# Altium footprint library KUOZHAN.PcbLib: 64 footprints (part 2 of 4)
Each footprint in its own frame and in the unit in brackets; x right, y up, seen from the top. Pads: shape width x height; smd on the part's side, far side on the other; paste and mask are expansions set on the pad; w line width, h text height; cw(c..) or ccw(c..) is an arc to the next point about the centre after c.
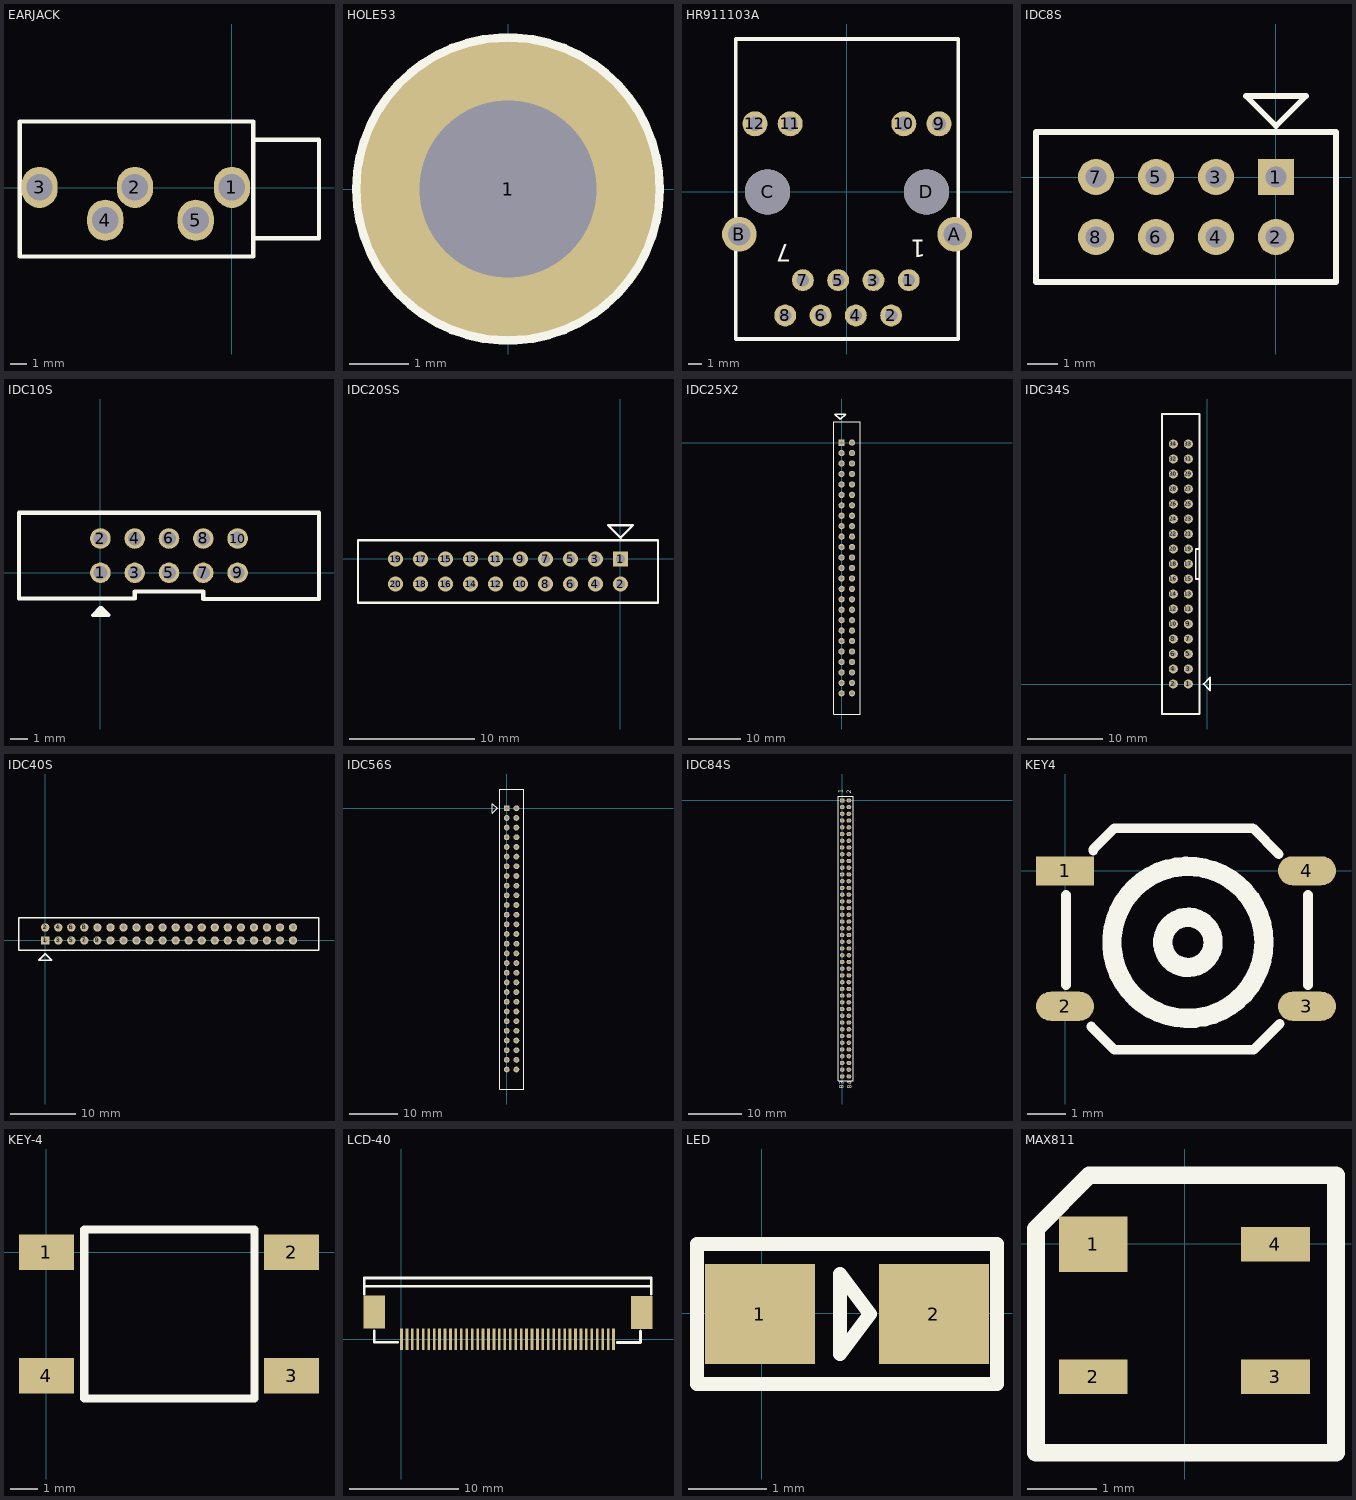
[diagram p1: the footprints below, top view; thin cyan lines are the x and y axes]

## EARJACK [mm]
pads (5):
  oval 2.2x2.5 hole 1.6: 1(-0.006,0.012) 2(-5.906,0.012) 3(-11.706,0.012) 4(-7.706,-1.988) 5(-2.206,-1.988)
TopOverlay:
  lines w0.254: 1.294,-3.088 5.294,-3.088 5.294,2.912 1.294,2.912 ; -12.906,-4.188 1.294,-4.188 1.294,4.012 -12.906,4.012 -12.906,-4.188

## HOLE53 [mm]
pads (1):
  round 5 hole 3: 1(0,0)
TopOverlay:
  circle w0.2: c0,0 r2.54

## HR911103A [mm]
pads (16):
  round 1.575 hole 0.889: 1(4.462,-6.344) 2(3.192,-8.884) 3(1.922,-6.344) 4(0.652,-8.884) 5(-0.618,-6.344) 6(-1.888,-8.884) 7(-3.158,-6.344) 8(-4.428,-8.884)
  round 1.8 hole 1.02: 9(6.642,4.906) 10(4.102,4.906) 11(-4.068,4.906) 12(-6.608,4.906)
  round 2.5 hole 1.63: A(7.762,-3.044) B(-7.728,-3.044)
  round 3.25 hole 3.25: C(-5.698,0.006) D(5.732,0.006)
TopOverlay:
  lines w0.254: -7.983,-10.577 -7.983,11.006 8.017,11.006 8.017,-10.577 -7.983,-10.577
  text "1" at 5.677,-3.445 h1.27
  text "7" at -3.982,-3.777 h1.27

## IDC8S [mm]
pads (8):
  rect 1.2x1.2 hole 0.7: 1(0,0)
  round 1.2 hole 0.7: 2(0,-2) 3(-2,0) 4(-2,-2) 5(-4,0) 6(-4,-2) 7(-6,0) 8(-6,-2)
TopOverlay:
  lines w0.2: -8,-3.5 2,-3.5 2,1.5 -8,1.5 -8,-3.5 ; -1,2.7 1,2.7 0,1.7 -1,2.7

## IDC10S [mm]
pads (10):
  round 1.2 hole 0.8: 1(-0.001,0.003) 2(-0.001,2.003) 3(1.999,0.003) 4(1.999,2.003) 5(3.999,0.003) 6(3.999,2.003) 7(5.999,0.003) 8(5.999,2.003) 9(7.999,0.003) 10(7.999,2.003)
TopOverlay:
  lines w0.2: 0.311,-2.284 -0.236,-2.284 -0.249,-2.271 0.105,-2.271 0.201,-2.174 0.201,-2.245 -0.026,-2.472 -0.026,-2.047 -0.001,-2.022 ; -0.001,-2.022 -0.451,-2.472 0.299,-2.472 0.499,-2.472 0.049,-2.022 -0.001,-2.022
  lines w0.254: 12.749,-1.522 5.999,-1.522 5.999,-1.093 1.999,-1.093 1.999,-1.497 -4.751,-1.497 -4.751,3.503 12.749,3.503 12.749,-1.497

## IDC20SS [mm]
pads (20):
  rect 1.2x1.2 hole 0.7: 1(0.006,-0.003)
  round 1.2 hole 0.7: 2(0.006,-2.003) 3(-1.994,-0.003) 4(-1.994,-2.003) 5(-3.994,-0.003) 6(-3.994,-2.003) 7(-5.994,-0.003) 8(-5.994,-2.003) 9(-7.994,-0.003) 10(-7.994,-2.003) 11(-9.994,-0.003) 12(-9.994,-2.003) 13(-11.994,-0.003) 14(-11.994,-2.003) 15(-13.994,-0.003) 16(-13.994,-2.003) 17(-15.994,-0.003) 18(-15.994,-2.003) 19(-17.994,-0.003) 20(-17.994,-2.003)
TopOverlay:
  lines w0.2: -20.994,-3.503 3.006,-3.503 3.006,1.497 -20.994,1.497 -20.994,-3.503 ; -0.994,2.697 1.006,2.697 0.006,1.697 -0.994,2.697

## IDC25X2 [mm]
pads (50):
  rect 1.2x1.2 hole 0.7: 1(0,0)
  round 1.2 hole 0.7: 2(2,0) 3(0,-2) 4(2,-2) 5(0,-4) 6(2,-4) 7(0,-6) 8(2,-6) 9(0,-8) 10(2,-8) 11(0,-10) 12(2,-10) 13(0,-12) 14(2,-12) 15(0,-14) 16(2,-14) 17(0,-16) 18(2,-16) 19(0,-18) 20(2,-18) 21(0,-20) 22(2,-20) 23(0,-22) 24(2,-22) 25(0,-24) 26(2,-24) 27(0,-26) 28(2,-26) 29(0,-28) 30(2,-28) 31(0,-30) 32(2,-30) 33(0,-32) 34(2,-32) 35(0,-34) 36(2,-34) 37(0,-36) 38(2,-36) 39(0,-38) 40(2,-38) 41(0,-40) 42(2,-40) 43(0,-42) 44(2,-42) 45(0,-44) 46(2,-44) 47(0,-46) 48(2,-46) 49(0,-48) 50(2,-48)
TopOverlay:
  lines w0.2: -1.458,-51.96 3.542,-51.96 3.542,3.975 -1.458,3.975 -1.458,-51.96
  lines w0.254: -1.272,5.481 0.76,5.481 -0.256,4.465 -1.272,5.481

## IDC34S [mm]
pads (34):
  round 1.2 hole 0.7: 1(-2.504,0.016) 2(-4.504,0.016) 3(-2.504,2.016) 4(-4.504,2.016) 5(-2.504,4.016) 6(-4.504,4.016) 7(-2.504,6.016) 8(-4.504,6.016) 9(-2.504,8.016) 10(-4.504,8.016) 11(-2.504,10.016) 12(-4.504,10.016) 13(-2.504,12.016) 14(-4.504,12.016) 15(-2.504,14.016) 16(-4.504,14.016) 17(-2.504,16.016) 18(-4.504,16.016) 19(-2.504,18.016) 20(-4.504,18.016) 21(-2.504,20.016) 22(-4.504,20.016) 23(-2.504,22.016) 24(-4.504,22.016) 25(-2.504,24.016) 26(-4.504,24.016) 27(-2.504,26.016) 28(-4.504,26.016) 29(-2.504,28.016) 30(-4.504,28.016) 31(-2.504,30.016) 32(-4.504,30.016) 33(-2.504,32.016) 34(-4.504,32.016)
TopOverlay:
  lines w0.254: -1.004,14.008 -1.513,14.008 -1.513,18.008 -1.004,18.008 ; -6.004,-3.991 -6.004,36.009 -1.004,36.009 -1.004,-3.991 -6.005,-3.991 ; -0.481,0.009 0.369,-0.841 0.369,0.859 -0.481,0.009

## IDC40S [mm]
pads (40):
  rect 1.27x1.27 hole 0.7: 1(0.021,-0.008)
  round 1.27 hole 0.7: 2(0.021,1.992) 3(2.021,-0.008) 4(2.021,1.992) 5(4.021,-0.008) 6(4.021,1.992) 7(6.021,-0.008) 8(6.021,1.992) 9(8.021,-0.008) 10(8.021,1.992) 11(10.021,-0.008) 12(10.021,1.992) 13(12.021,-0.008) 14(12.021,1.992) 15(14.021,-0.008) 16(14.021,1.992) 17(16.021,-0.008) 18(16.021,1.992) 19(18.021,-0.008) 20(18.021,1.992) 21(20.021,-0.008) 22(20.021,1.992) 23(22.021,-0.008) 24(22.021,1.992) 25(24.021,-0.008) 26(24.021,1.992) 27(26.021,-0.008) 28(26.021,1.992) 29(28.021,-0.008) 30(28.021,1.992) 31(30.021,-0.008) 32(30.021,1.992) 33(32.021,-0.008) 34(32.021,1.992) 35(34.021,-0.008) 36(34.021,1.992) 37(36.021,-0.008) 38(36.021,1.992) 39(38.021,-0.008) 40(38.021,1.992)
TopOverlay:
  lines w0.2: -4,-1.508 -4,3.492 42,3.492 42,-1.508 -4,-1.508
  lines w0.254: -0.995,-3.056 0.021,-2.04 1.037,-3.056 -0.995,-3.056

## IDC56S [mm]
pads (56):
  rect 1.2x1.2 hole 0.7: 1(0,0)
  round 1.2 hole 0.7: 2(0,-2) 3(0,-4) 4(0,-6) 5(0,-8) 6(0,-10) 7(0,-12) 8(0,-14) 9(0,-16) 10(0,-18) 11(0,-20) 12(0,-22) 13(0,-24) 14(0,-26) 15(0,-28) 16(0,-30) 17(0,-32) 18(0,-34) 19(0,-36) 20(0,-38) 21(0,-40) 22(0,-42) 23(0,-44) 24(0,-46) 25(0,-48) 26(0,-50) 27(0,-52) 28(0,-54) 29(2,-54) 30(2,-52) 31(2,-50) 32(2,-48) 33(2,-46) 34(2,-44) 35(2,-42) 36(2,-40) 37(2,-38) 38(2,-36) 39(2,-34) 40(2,-32) 41(2,-30) 42(2,-28) 43(2,-26) 44(2,-24) 45(2,-22) 46(2,-20) 47(2,-18) 48(2,-16) 49(2,-14) 50(2,-12) 51(2,-10) 52(2,-8) 53(2,-6) 54(2,-4) 55(2,-2) 56(2,0)
TopOverlay:
  lines w0.2: -1.458,-58.025 -1.458,3.975 3.542,3.975 3.542,-58.025 -1.458,-58.025
  lines w0.254: -3.006,-1.062 -3.006,0.97 -1.99,-0.046 -3.006,-1.062

## IDC84S [mm]
pads (84):
  rect 0.8x0.8 hole 0.6: 1(0,0)
  oval 0.9x0.8 hole 0.6: 2(1.27,0) 3(0,-1.271) 4(1.27,-1.271) 5(0,-2.542) 6(1.27,-2.542) 7(0,-3.813) 8(1.27,-3.813) 9(0,-5.084) 10(1.27,-5.084) 11(0,-6.354) 12(1.27,-6.354) 13(0,-7.625) 14(1.27,-7.625) 15(0,-8.896) 16(1.27,-8.896) 17(0,-10.167) 18(1.27,-10.167) 19(0,-11.438) 20(1.27,-11.438) 21(0,-12.709) 22(1.27,-12.709) 23(0,-13.98) 24(1.27,-13.98) 25(0,-15.251) 26(1.27,-15.251) 27(0,-16.521) 28(1.27,-16.521) 29(0,-17.792) 30(1.27,-17.792) 31(0,-19.063) 32(1.27,-19.063) 33(0,-20.334) 34(1.27,-20.334) 35(0,-21.605) 36(1.27,-21.605) 37(0,-22.876) 38(1.27,-22.876) 39(0,-24.147) 40(1.27,-24.147) 41(0,-25.418) 42(1.27,-25.418) 43(0,-26.688) 44(1.27,-26.688) 45(0,-27.959) 46(1.27,-27.959) 47(0,-29.23) 48(1.27,-29.23) 49(0,-30.501) 50(1.27,-30.501) 51(0,-31.772) 52(1.27,-31.772) 53(0,-33.043) 54(1.27,-33.043) 55(0,-34.314) 56(1.27,-34.314) 57(0,-35.585) 58(1.27,-35.585) 59(0,-36.855) 60(1.27,-36.855) 61(0,-38.126) 62(1.27,-38.126) 63(0,-39.397) 64(1.27,-39.397) 65(0,-40.668) 66(1.27,-40.668) 67(0,-41.939) 68(1.27,-41.939) 69(0,-43.21) 70(1.27,-43.21) 71(0,-44.481) 72(1.27,-44.481) 73(0,-45.752) 74(1.27,-45.752) 75(0,-47.023) 76(1.27,-47.023) 77(0,-48.293) 78(1.27,-48.293) 79(0,-49.564) 80(1.27,-49.564) 81(0,-50.835) 82(1.27,-50.835) 83(0,-52.106) 84(1.27,-52.106)
TopOverlay:
  lines w0.2: -0.75,-52.959 2.05,-52.959 2.05,0.8 -0.75,0.8 -0.75,-52.959
  text "84" at 1.778,-54.483 h0.8
  text "83" at 0.254,-54.483 h0.8
  text "2" at 1.75,1.25 h0.8
  text "1" at 0.075,1.35 h0.8

## KEY4 [mil]
pads (4):
  rect 60x30 smd: 1(0,0)
  oval 60x30 smd: 2(0,-140) 3(250,-140) 4(250,0)
TopOverlay:
  circle w20: c127,-74 r25.96
  circle w20: c127,-74 r78.57
  lines w10: 1,-118 1,-25 ; 27,-161 51,-185 64,-185 184,-185 195,-185 222,-158 ; 29,21 29,22 51,44 60,44 188,44 194,44 221,17 ; 251,-118 251,-25

## KEY-4 [mm]
pads (4):
  rect 2x1.3 smd: 1(0,0) 2(8.925,0) 3(8.925,-4.5) 4(0,-4.5)
TopOverlay:
  lines w0.3: 7.575,-5.325 1.375,-5.325 1.375,0.825 7.575,0.825 ; 7.575,-5.275 7.575,0.775

## LCD-40 [mm]
pads (42):
  rect 0.25x2 smd: 1(0,0) 2(0.5,0) 3(1,0) 4(1.5,0) 5(2,0) 6(2.5,0) 7(3,0) 8(3.5,0) 9(4,0) 10(4.5,0) 11(5,0) 12(5.5,0) 13(6,0) 14(6.5,0) 15(7,0) 16(7.5,0) 17(8,0) 18(8.5,0) 19(9,0) 20(9.5,0) 21(10,0) 22(10.5,0) 23(11,0) 24(11.5,0) 25(12,0) 26(12.5,0) 27(13,0) 28(13.5,0) 29(14,0) 30(14.5,0) 31(15,0) 32(15.5,0) 33(16,0) 34(16.5,0) 35(17,0) 36(17.5,0) 37(18,0) 38(18.5,0) 39(19,0) 40(19.5,0)
  rect 2x3 smd: ""(-2.5,2.5) ""(22.087,2.449)
TopOverlay:
  lines w0.25: -3.414,4.126 -3.414,5.626 22.976,5.626 22.976,4.126 ; -3.414,4.862 22.9,4.862 ; -2.5,0.773 -2.5,-0.278 -0.366,-0.278 ; 19.852,-0.303 21.986,-0.303 21.986,0.747

## LED [mm]
pads (2):
  rect 1.4x1.27 smd: 1(-0.025,-0.01) 2(2.185,-0.01)
TopOverlay:
  lines w0.178: 2.985,0.879 -0.825,0.879 -0.825,-0.01 -0.825,-0.899 2.985,-0.899 2.985,0.879 ; 2.985,0.879 2.986,0.879 ; 0.991,-0.518 1.372,-0.01 0.991,0.498 0.991,-0.518

## MAX811 [mm]
pads (4):
  rect 1x0.8 smd: 1(-1.327,-0.004)
  rect 1x0.5 smd: 2(-1.327,-1.924) 3(1.313,-1.924) 4(1.313,-0.004)
TopOverlay:
  lines w0.254: -2.157,-3.029 2.193,-3.029 2.193,0.996 -1.382,0.996 -2.157,0.221 -2.157,-3.029